# EAGLE library part CON-USB-HOST (library arducorder-mini)
USB Host Connector
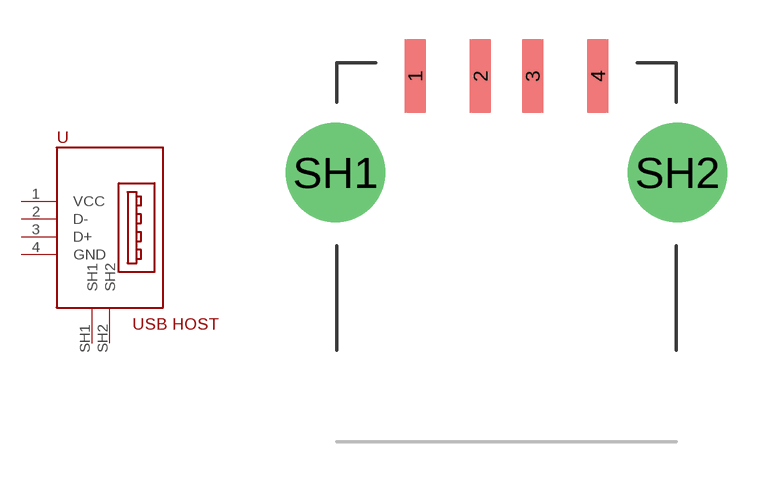
[diagram p17: symbol with the pads of CON-ASSMAN-AU-Y1006-2-R; footprint CON-ASSMAN-AU-Y1006-2-R]

Designator prefix -

## CON-USB-HOST  [CON-ASSMAN-AU-Y1006-2-R]
1  VCC
2  D-
3  D+
4  GND
SH1  SH1
SH2  SH2

## Footprint CON-ASSMAN-AU-Y1006-2-R (pad centres in mm)
smd 0.8 x 2.82: 1 -3.5,0; 2 -1,0; 3 1,0; 4 3.5,0
drill 2.2 pad 3.81: SH1 -6.55,-3.7; SH2 6.55,-3.7